# Altium integrated library LEDs-SMSW_rev15b.intlib: 5 symbols
Pins are listed as number, name and electrical type; pins without a type are passive.

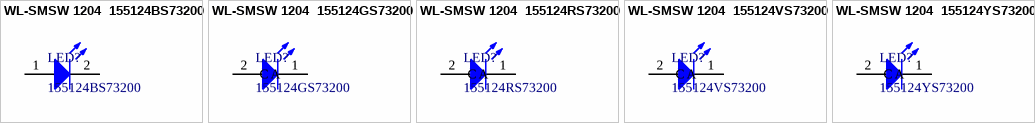
[diagram p0: symbols WL-SMSW 1204  155124BS73200 to WL-SMSW 1204  155124YS73200]

## WL-SMSW 1204  155124BS73200
designator LED?, comment 155124BS73200
SMD Side view mono-color Chip LED-Round , WL-SMSW, Blue; Manufacturer: W黵th Elektronik eiSos GmbH; PartNo: 155124BS73200; ComponentLink1Description: Manufacturer; ComponentLink1URL: http://www.we-online.de; Created by: Christin Otto; Created Date: June 2013; ComponentLink2Description: Datasheet; ComponentLink2URL: http://katalog.we-online.com/led/datasheet/155124BS73200.pdf; Color: Blue
footprint 1204 (Chip LED, 2-Leads, Body 1.0x3.2mm)
pins: 1, 2

## WL-SMSW 1204  155124GS73200
designator LED?, comment 155124GS73200
SMD Side view mono-color Chip LED-Round , WL-SMSW, Green; Manufacturer: W黵th Elektronik eiSos GmbH; Color: Yellow; PartNo: 155124GS73200; ComponentLink1Description: Manufacturer; ComponentLink1URL: http://www.we-online.de; Created by: Christin Otto; Created Date: June 2013; ComponentLink2Description: Datasheet; ComponentLink2URL: http://katalog.we-online.com/led/datasheet/155124GS73200.pdf
footprint 1204 (Chip LED, 2-Leads, Body 1.0x3.2mm)
pins: 1 C, 2 A

## WL-SMSW 1204  155124RS73200
designator LED?, comment 155124RS73200
SMD Side view mono-color Chip LED-Round , WL-SMSW, Red; Manufacturer: W黵th Elektronik eiSos GmbH; PartNo: 155124RS73200; ComponentLink1Description: Manufacturer; ComponentLink1URL: http://www.we-online.de; Created by: Christin Otto; Created Date: June 2013; ComponentLink2Description: Datasheet; ComponentLink2URL: http://katalog.we-online.com/led/datasheet/155124RS73200.pdf; Color: Red
footprint 1204 (Chip LED, 2-Leads, Body 1.0x3.2mm)
pins: 1 C, 2 A

## WL-SMSW 1204  155124VS73200
designator LED?, comment 155124VS73200
SMD Side view mono-color Chip LED-Round , WL-SMSW, Bright Green; Manufacturer: W黵th Elektronik eiSos GmbH; PartNo: 155124VS73200; ComponentLink1Description: Manufacturer; ComponentLink1URL: http://www.we-online.de; Created by: Christin Otto; Created Date: June 2013; ComponentLink2Description: Datasheet; ComponentLink2URL: http://katalog.we-online.com/led/datasheet/155124VS73200.pdf; Color: Bright Green
footprint 1204 (Chip LED, 2-Leads, Body 1.0x3.2mm)
pins: 1 C, 2 A

## WL-SMSW 1204  155124YS73200
designator LED?, comment 155124YS73200
SMD Side view mono-color Chip LED-Round , WL-SMSW, Yellow; Manufacturer: W黵th Elektronik eiSos GmbH; PartNo: 155124YS73200; ComponentLink1Description: Manufacturer; ComponentLink1URL: http://www.we-online.de; Created by: Christin Otto; Created Date: June 2013; ComponentLink2Description: Datasheet; ComponentLink2URL: http://katalog.we-online.com/led/datasheet/155124YS73200.pdf; Color: Yellow
footprint 1204 (Chip LED, 2-Leads, Body 1.0x3.2mm)
pins: 1 C, 2 A